# EAGLE library part 1X6_ROUND (library pins_1.27mm_pitch)
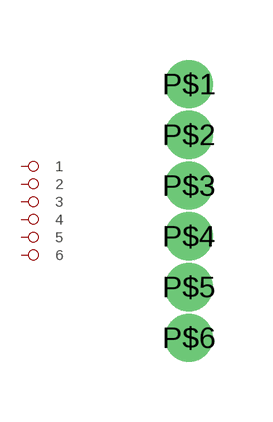
[diagram p1: symbol with the pads of 1X6_ROUND; footprint 1X6_ROUND]

Designator prefix -

## 1X6_ROUND  [1X6_ROUND]
P$1  1
P$2  2
P$3  3
P$4  4
P$5  5
P$6  6

## Footprint 1X6_ROUND (pad centres in mm)
drill 0.7 pad 1: P$1 0,0; P$2 0,-1.27; P$3 0,-2.54; P$4 0,-3.81; P$5 0,-5.08; P$6 0,-6.35